# EAGLE library part NEO-6M-GPS (library NEO-6M-GPS)
SMD GPS Module Check availability <https://pricing.snapeda.com/parts/NEO-6M-GPS/u-blox/view-part?ref=eda>
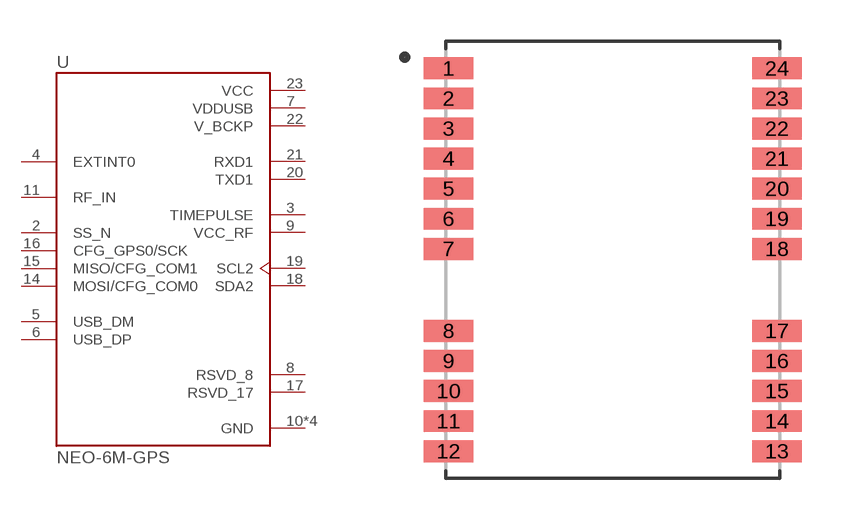
[diagram p0: symbol with the pads of XCVR_NEO-6M-GPS; footprint XCVR_NEO-6M-GPS]

Designator prefix U

## NEO-6M-GPS (Availability: Not in stock; Description: GPS Development Tools SparkFun GNSS-RTK Dead Reckoning Breakout - ZED-F9K (Qwiic); MF: u-blox; MP: NEO-6M-GPS; Package: None; Price: None)  [XCVR_NEO-6M-GPS]
2  SS_N  in
3  TIMEPULSE  out
4  EXTINT0  in
5  USB_DM
6  USB_DP
7  VDDUSB  pwr
8  RSVD_8  pas
9  VCC_RF  out
10  GND  pwr
11  RF_IN  in
12  GND  pwr
13  GND  pwr
14  MOSI/CFG_COM0
15  MISO/CFG_COM1  in
16  CFG_GPS0/SCK  in
17  RSVD_17  pas
18  SDA2
19  SCL2
20  TXD1  out
21  RXD1  in
22  V_BCKP  pwr
23  VCC  pwr
24  GND  pwr

## Footprint XCVR_NEO-6M-GPS (pad centres in mm)
smd 1.8 x 0.8: 1 -6,7; 2 -6,5.9; 3 -6,4.8; 4 -6,3.7; 5 -6,2.6; 6 -6,1.5; 7 -6,0.4; 8 -6,-2.6; 9 -6,-3.7; 10 -6,-4.8; 11 -6,-5.9; 12 -6,-7; 13 6,-7; 14 6,-5.9; 15 6,-4.8; 16 6,-3.7; 17 6,-2.6; 18 6,0.4; 19 6,1.5; 20 6,2.6; 21 6,3.7; 22 6,4.8; 23 6,5.9; 24 6,7